# Altium schematic symbol library MC33064D.SchLib: 1 symbol
Pins are listed as number, name and electrical type; pins without a type are passive.

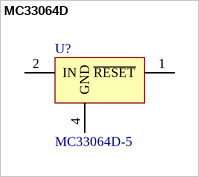
[diagram p0: symbol MC33064D]

## MC33064D
designator U?, comment MC33064D-5
RESET GENERATOR
footprint SO-8
pins: 1 ~{RESET}, 2 IN, 4 GND